# Altium footprint library TO-247.PcbLib: 1 footprints
Each footprint in its own frame and in the unit in brackets; x right, y up, seen from the top. Pads: shape width x height; smd on the part's side, far side on the other; paste and mask are expansions set on the pad; w line width, h text height; cw(c..) or ccw(c..) is an arc to the next point about the centre after c.
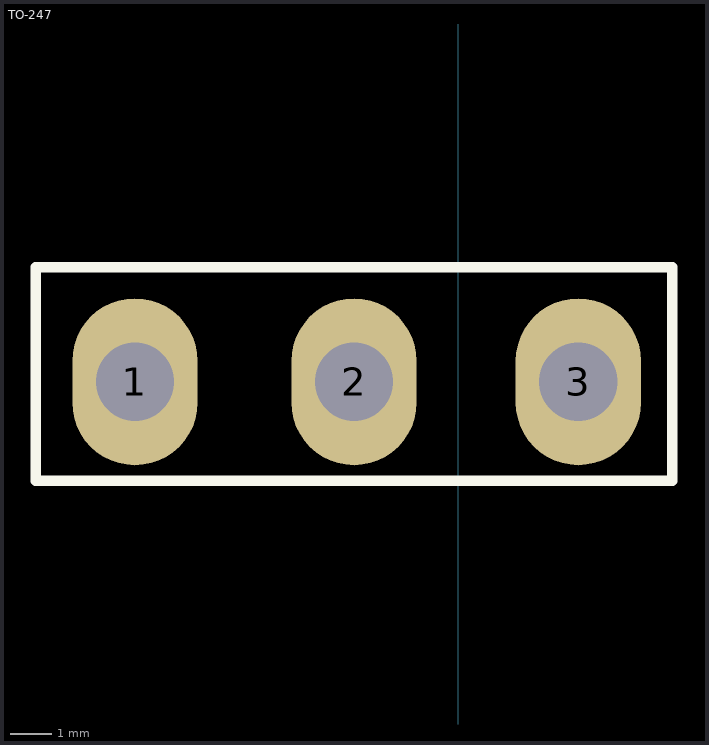
[diagram p0: the footprint, top view; thin cyan lines are the x and y axes]

## TO-247 [mil]
pads (3):
  oval 120x160 hole 75: 1(-310,-930) 2(-100,-930) 3(115,-930)
Top Overlay:
  lines w10: -405,-1025 205,-1025 205,-820 -405,-820 -405,-1025
3D body "TO-247.STEP": height 1196.65, standoff -193.11, extent -405.12,-1020 205.12,-823.15